# EAGLE library part RJ12 (library con-rj)
RJ12, RJ14 and RJ25 RJ12, RJ14 and RJ25 jacks side mounted http://www.tycoelectronics.com
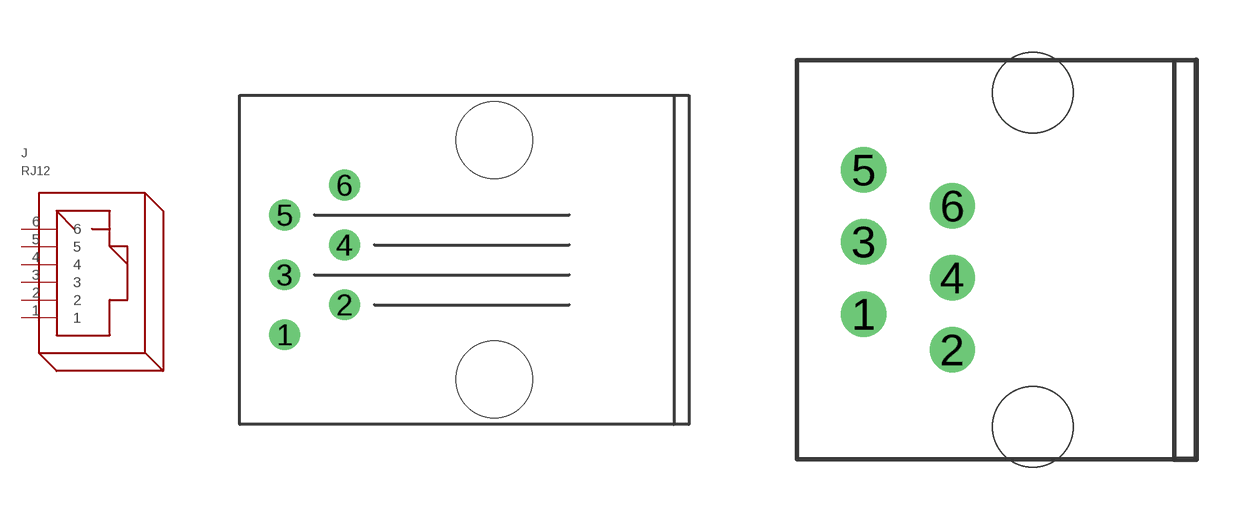
[diagram p0: symbol with the pads of RJ12; footprints RJ12, RJ12_KAZI]

Designator prefix J

## RJ12  [RJ12]
1  1
2  2
3  3
4  4
5  5
6  6

## RJ12KAZI  [RJ12_KAZI]
Pads as for RJ12

## Footprint RJ12 (pad centres in mm)
RJ12, RJ14, RJ25 RJ12, RJ14 and RJ22 jacks side mounted http://www.tycoelectronics.com
drill 0.8: 1 -8.89,-3.175; 2 -6.35,-1.905; 3 -8.89,-0.635; 4 -6.35,0.635; 5 -8.89,1.905; 6 -6.35,3.175
hole 3.25 at 0,-5.08
hole 3.25 at 0,5.08

## Footprint RJ12_KAZI (pad centres in mm)
RJ12, RJ14, RJ25 RJ12, RJ14 and RJ22 jacks side mounted http://www.tycoelectronics.com
drill 0.79: 1 -1.27,-1.558; 2 1.27,-2.58; 3 -1.27,0.516; 4 1.27,-0.516; 5 -1.27,2.58; 6 1.27,1.548
hole 2.3 at 3.572,-4.793
hole 2.3 at 3.571,4.793